# EAGLE library part MICROSD (library gc1_parts)
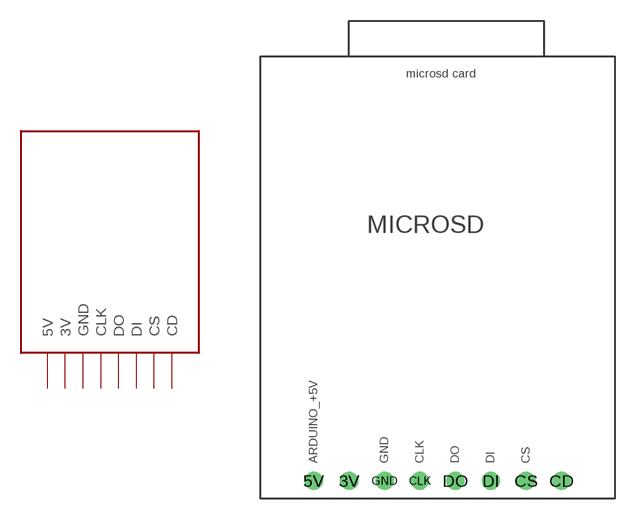
[diagram p1: symbol with the pads of MICROSD; footprint MICROSD]

Designator prefix -

## MICROSD  [MICROSD]
3V  3V
5V  5V
CD  CD
CLK  CLK
CS  CS
DI  DI
DO  DO
GND  GND

## Footprint MICROSD (pad centres in mm)
drill 0.8: 3V 6.35,-30.48; 5V 3.81,-30.48; CD 21.59,-30.48; CLK 11.43,-30.48; CS 19.05,-30.48; DI 16.51,-30.48; DO 13.97,-30.48; GND 8.89,-30.48